# Altium schematic symbol library CK45.SchLib: 1 symbol
Pins are listed as number, name and electrical type; pins without a type are passive.

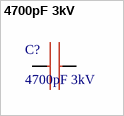
[diagram p0: symbol 4700pF 3kV]

## 4700pF 3kV
designator C?
footprint ck45_7.5_12_6
pins: 1, 2